# Altium integrated library NSC Interface.IntLib: 504 symbols (part 15 of 16)
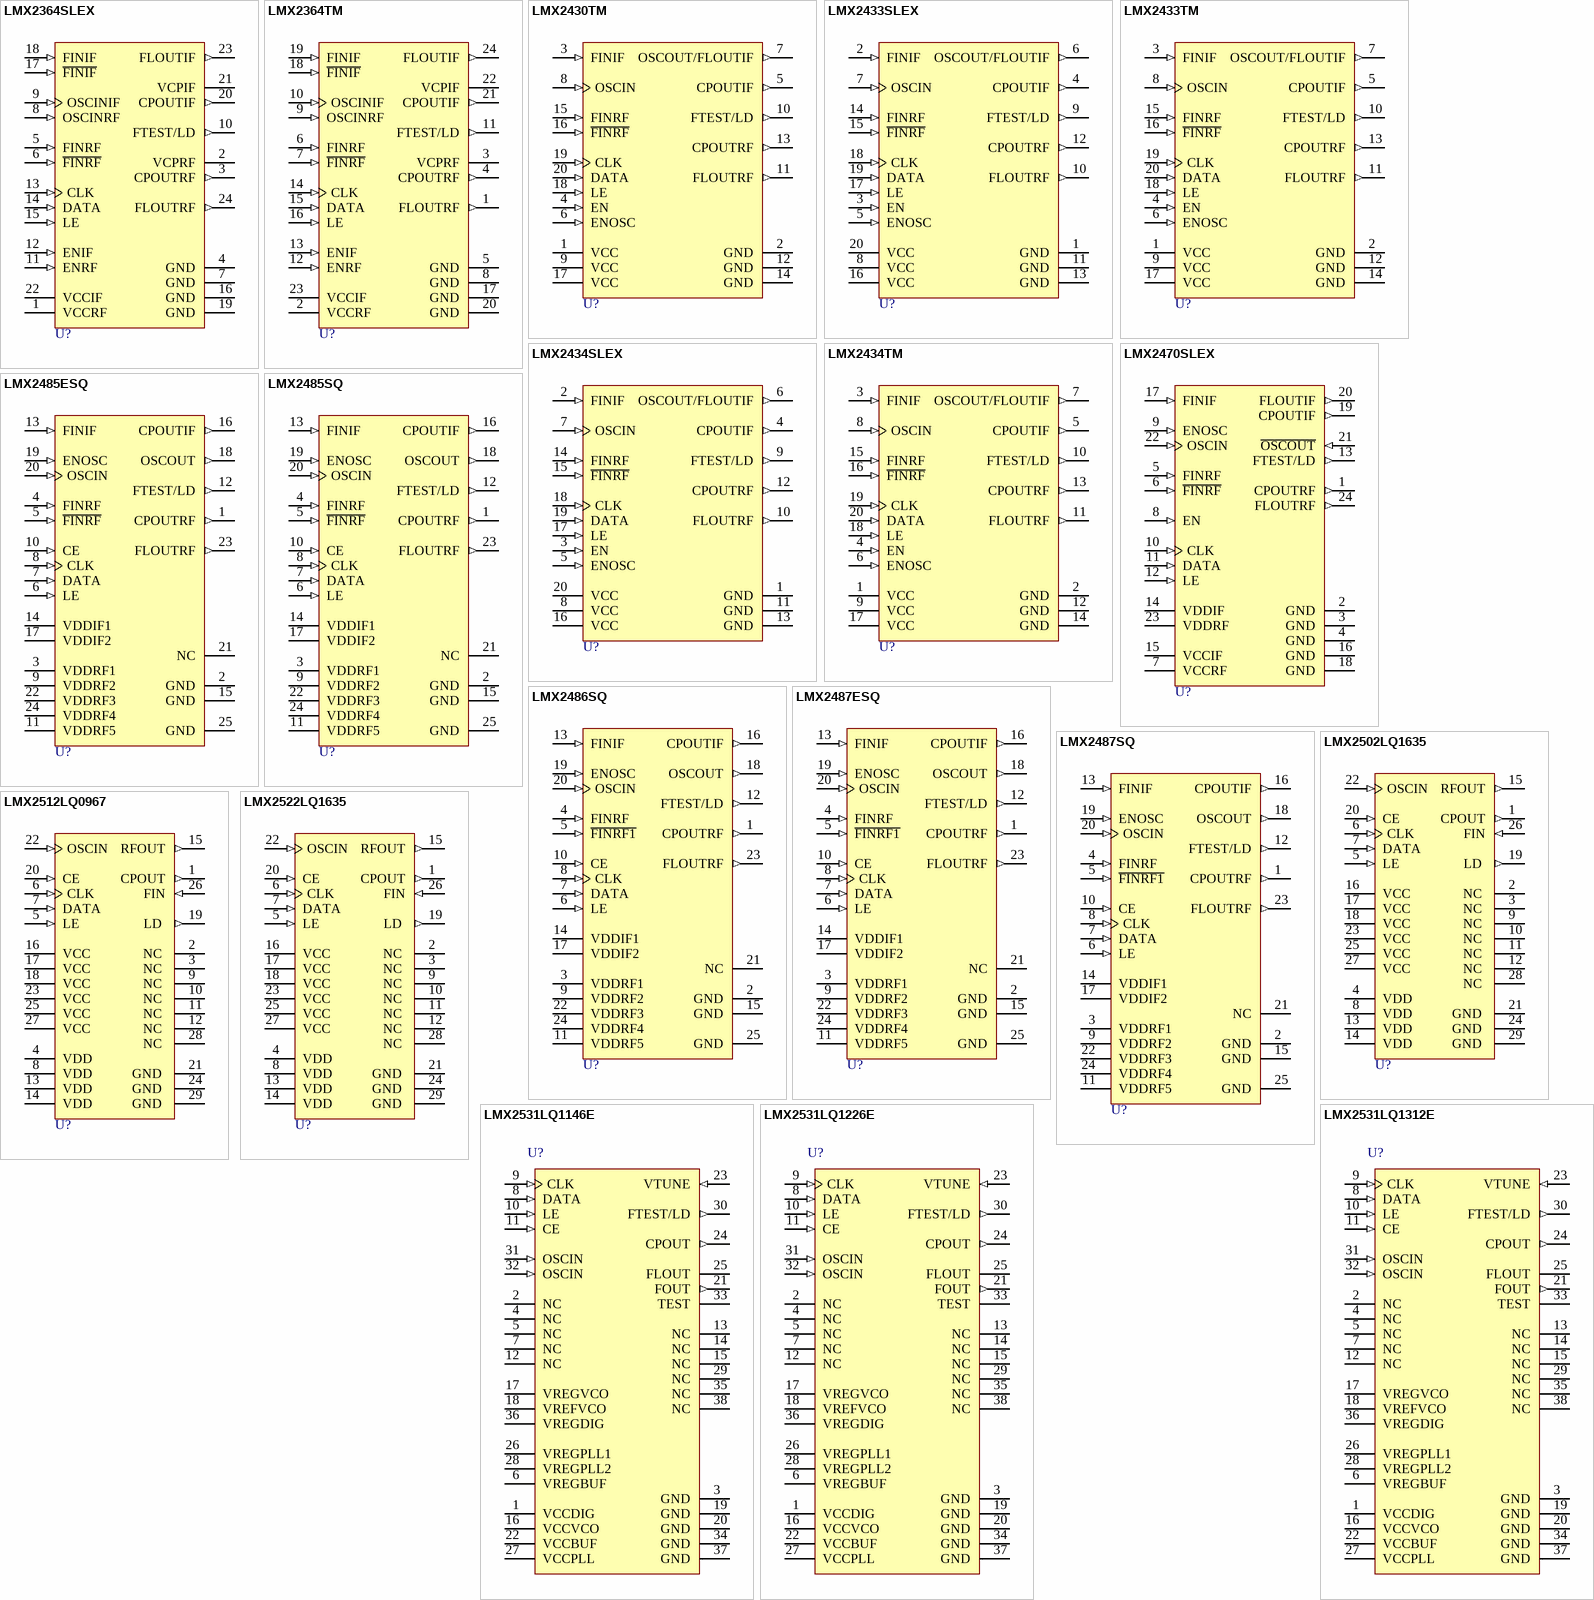
[diagram p55: symbols LMX2364SLEX to LMX2531LQ1312E]

## LMX2502LQ1635
designator U?
Frequency Synthesizer System with Integrated VCOs; PartNumber: LMX2502LQ1635; Manufacturer: National Semiconductor; CompType: Interface IC; PackageTopMarking: NS*GZXYTT*25021635; PowerWise: N; Published: 4-Dec-2008; DatasheetVersion: Jun-2003; PackageVersion: revB, Jul-2001; PackageReference: LQA28A; Publisher: Altium Limited; PackageDescription: LLP, Plastic, Quad, 5 x 5 x 0.75mm Body, 28 Lead, 0.5mm Pitch; RoHS: Y; PinCount: 28; DigiKeyPartNumber: LMX2502LQ1635TR-ND; Code_JEDEC: MO-220-WHHD-1; ComponentLink1Description: LMX2502 Datasheet; ComponentLink1URL: http://www.national.com/ds/LM/LMX2502.pdf; ComponentLink2Description: LMX2502 Web Page; ComponentLink2URL: http://www.national.com/pf/LM/LMX2502.html; ComponentLink3Description: LQA28A Package Page; ComponentLink3URL: http://www.national.com/packaging/folders/lqa28a.html
footprint LQA28A (PQFN, 28-Leads, Body 5x5mm, Pitch 0.5mm, NSC Recommended)
pins: 1 CPOUT (out), 2 NC , 3 NC , 4 VDD  (power), 5 LE  (in), 6 CLK  (in), 7 DATA  (in), 8 VDD  (power), 9 NC , 10 NC , 11 NC , 12 NC , 13 VDD  (power), 14 VDD  (power), 15 RFOUT (out), 16 VCC  (power), 17 VCC  (power), 18 VCC  (power), 19 LD  (out), 20 CE  (in), 21 GND  (power), 22 OSCIN (in), 23 VCC  (power), 24 GND  (power), 25 VCC  (power), 26 FIN (in), 27 VCC  (power), 28 NC , 29 GND  (power)

## LMX2512LQ0967
designator U?
Frequency Synthesizer System with Integrated VCO; PartNumber: LMX2512LQ0967; Manufacturer: National Semiconductor; CompType: Interface IC; PackageTopMarking: NS*GZXYTT*25120967; PowerWise: N; Published: 4-Dec-2008; DatasheetVersion: Jun-2003; PackageVersion: revB, Jul-2001; PackageReference: LQA28A; Publisher: Altium Limited; PackageDescription: LLP, Plastic, Quad, 5 x 5 x 0.75mm Body, 28 Lead, 0.5mm Pitch; RoHS: Y; PinCount: 28; DigiKeyPartNumber: LMX2512LQ0967TR-ND; Code_JEDEC: MO-220-WHHD-1; ComponentLink1Description: LMX2512 Datasheet; ComponentLink1URL: http://www.national.com/ds/LM/LMX2512.pdf; ComponentLink2Description: LMX2512 Web Page; ComponentLink2URL: http://www.national.com/pf/LM/LMX2512.html; ComponentLink3Description: LQA28A Package Page; ComponentLink3URL: http://www.national.com/packaging/folders/lqa28a.html
footprint LQA28A (PQFN, 28-Leads, Body 5x5mm, Pitch 0.5mm, NSC Recommended)
pins: 1 CPOUT (out), 2 NC , 3 NC , 4 VDD  (power), 5 LE  (in), 6 CLK  (in), 7 DATA  (in), 8 VDD  (power), 9 NC , 10 NC , 11 NC , 12 NC , 13 VDD  (power), 14 VDD  (power), 15 RFOUT (out), 16 VCC  (power), 17 VCC  (power), 18 VCC  (power), 19 LD  (out), 20 CE  (in), 21 GND  (power), 22 OSCIN (in), 23 VCC  (power), 24 GND  (power), 25 VCC  (power), 26 FIN (in), 27 VCC  (power), 28 NC , 29 GND  (power)

## LMX2522LQ1635
designator U?
PLLatinum Dual Frequency Synthesizer System with Integrated VCOs; PartNumber: LMX2522LQ1635; Manufacturer: National Semiconductor; CompType: Interface IC; PackageTopMarking: NS*GZXYTT*25221635; PowerWise: N; Published: 4-Dec-2008; DatasheetVersion: Jun-2003; PackageVersion: revB, Jul-2001; PackageReference: LQA28A; Publisher: Altium Limited; PackageDescription: LLP, Plastic, Quad, 5 x 5 x 0.75mm Body, 28 Lead, 0.5mm Pitch; RoHS: O; PinCount: 28; DigiKeyPartNumber: LMX2522LQ1635TR-ND; Code_JEDEC: MO-220-WHHD-1; ComponentLink1Description: LMX2522 Datasheet; ComponentLink1URL: http://www.national.com/ds/LM/LMX2522.pdf; ComponentLink2Description: LMX2522 Web Page; ComponentLink2URL: http://www.national.com/pf/LM/LMX2522.html; ComponentLink3Description: LQA28A Package Page; ComponentLink3URL: http://www.national.com/packaging/folders/lqa28a.html
footprint LQA28A (PQFN, 28-Leads, Body 5x5mm, Pitch 0.5mm, NSC Recommended)
pins: 1 CPOUT (out), 2 NC , 3 NC , 4 VDD  (power), 5 LE  (in), 6 CLK  (in), 7 DATA  (in), 8 VDD  (power), 9 NC , 10 NC , 11 NC , 12 NC , 13 VDD  (power), 14 VDD  (power), 15 RFOUT (out), 16 VCC  (power), 17 VCC  (power), 18 VCC  (power), 19 LD  (out), 20 CE  (in), 21 GND  (power), 22 OSCIN (in), 23 VCC  (power), 24 GND  (power), 25 VCC  (power), 26 FIN (in), 27 VCC  (power), 28 NC , 29 GND  (power)

## LMX2531LQ1146E
designator U?
High Performance Frequency Synthesizer System with Integrated VCO; PartNumber: LMX2531LQ1146E; Manufacturer: National Semiconductor; CompType: Interface IC; PackageTopMarking: NS*UZXYTT*311146E; PowerWise: Y; Published: 4-Dec-2008; DatasheetVersion: Apr-2008; PackageVersion: revB, Feb-2008; PackageReference: LQA36D; Publisher: Altium Limited; RoHS: Y; PinCount: 36; DigiKeyPartNumber: LMX2531LQ1146E-ND; ComponentLink1Description: LMX2531LQ1146E Datasheet; ComponentLink1URL: http://www.national.com/ds/LM/LMX2531LQ1146E.pdf; ComponentLink2Description: LMX2531LQ1146E Web Page; ComponentLink2URL: http://www.national.com/pf/LM/LMX2531LQ1146E.html; ComponentLink3Description: LQA36A Package Page; ComponentLink3URL: http://www.national.com/packaging/folders/lqa36a.html
footprint LQA36D (PQFN, 36-Leads, Body 6x6mm, Pitch 0.5mm, NSC Recommended)
pins: 1 VCCDIG (power), 2 NC, 3 GND (power), 4 NC, 5 NC, 6 VREGBUF (power), 7 NC, 8 DATA (in), 9 CLK (in), 10 LE (in), 11 CE (in), 12 NC, 13 NC, 14 NC, 15 NC, 16 VCCVCO (power), 17 VREGVCO (power), 18 VREFVCO (power), 19 GND (power), 20 GND (power), 21 FOUT (out), 22 VCCBUF (power), 23 VTUNE (in), 24 CPOUT (out), 25 FLOUT (oc), 26 VREGPLL1 (power), 27 VCCPLL (power), 28 VREGPLL2 (power), 29 NC, 30 FTEST/LD (out), 31 OSCIN (in), 32 OSCIN (in), 33 TEST, 34 GND (power), 35 NC, 36 VREGDIG (power), 37 GND, 38 NC

## LMX2531LQ1226E
designator U?
High Performance Frequency Synthesizer System with Integrated VCO; PartNumber: LMX2531LQ1226E; Manufacturer: National Semiconductor; CompType: Interface IC; PackageTopMarking: NS*UZXYTT*311226E; PowerWise: Y; Published: 4-Dec-2008; DatasheetVersion: Apr-2008; PackageVersion: revB, Feb-2008; PackageReference: LQA36D; Publisher: Altium Limited; RoHS: Y; PinCount: 36; DigiKeyPartNumber: LMX2531LQ1226E-ND; ComponentLink1Description: LMX2531LQ1226E Datasheet; ComponentLink1URL: http://www.national.com/ds/LM/LMX2531LQ1226E.pdf; ComponentLink2Description: LMX2531LQ1226E Web Page; ComponentLink2URL: http://www.national.com/pf/LM/LMX2531LQ1226E.html; ComponentLink3Description: LQA36A Package Page; ComponentLink3URL: http://www.national.com/packaging/folders/lqa36a.html
footprint LQA36D (PQFN, 36-Leads, Body 6x6mm, Pitch 0.5mm, NSC Recommended)
pins: 1 VCCDIG (power), 2 NC, 3 GND (power), 4 NC, 5 NC, 6 VREGBUF (power), 7 NC, 8 DATA (in), 9 CLK (in), 10 LE (in), 11 CE (in), 12 NC, 13 NC, 14 NC, 15 NC, 16 VCCVCO (power), 17 VREGVCO (power), 18 VREFVCO (power), 19 GND (power), 20 GND (power), 21 FOUT (out), 22 VCCBUF (power), 23 VTUNE (in), 24 CPOUT (out), 25 FLOUT (oc), 26 VREGPLL1 (power), 27 VCCPLL (power), 28 VREGPLL2 (power), 29 NC, 30 FTEST/LD (out), 31 OSCIN (in), 32 OSCIN (in), 33 TEST, 34 GND (power), 35 NC, 36 VREGDIG (power), 37 GND, 38 NC

## LMX2531LQ1312E
designator U?
High Performance Frequency Synthesizer System with Integrated VCO; PartNumber: LMX2531LQ1312E; Manufacturer: National Semiconductor; CompType: Interface IC; PackageTopMarking: NS*UZXYTT*311312E; PowerWise: Y; Published: 4-Dec-2008; DatasheetVersion: Apr-2008; PackageVersion: revB, Feb-2008; PackageReference: LQA36D; Publisher: Altium Limited; RoHS: Y; PinCount: 36; DigiKeyPartNumber: LMX2531LQ1312E-ND; ComponentLink1Description: LMX2531LQ1312E Datasheet; ComponentLink1URL: http://www.national.com/ds/LM/LMX2531LQ1312E.pdf; ComponentLink2Description: LMX2531LQ1312E Web Page; ComponentLink2URL: http://www.national.com/pf/LM/LMX2531LQ1312E.html; ComponentLink3Description: LQA36A Package Page; ComponentLink3URL: http://www.national.com/packaging/folders/lqa36a.html
footprint LQA36D (PQFN, 36-Leads, Body 6x6mm, Pitch 0.5mm, NSC Recommended)
pins: 1 VCCDIG (power), 2 NC, 3 GND (power), 4 NC, 5 NC, 6 VREGBUF (power), 7 NC, 8 DATA (in), 9 CLK (in), 10 LE (in), 11 CE (in), 12 NC, 13 NC, 14 NC, 15 NC, 16 VCCVCO (power), 17 VREGVCO (power), 18 VREFVCO (power), 19 GND (power), 20 GND (power), 21 FOUT (out), 22 VCCBUF (power), 23 VTUNE (in), 24 CPOUT (out), 25 FLOUT (oc), 26 VREGPLL1 (power), 27 VCCPLL (power), 28 VREGPLL2 (power), 29 NC, 30 FTEST/LD (out), 31 OSCIN (in), 32 OSCIN (in), 33 TEST, 34 GND (power), 35 NC, 36 VREGDIG (power), 37 GND, 38 NC

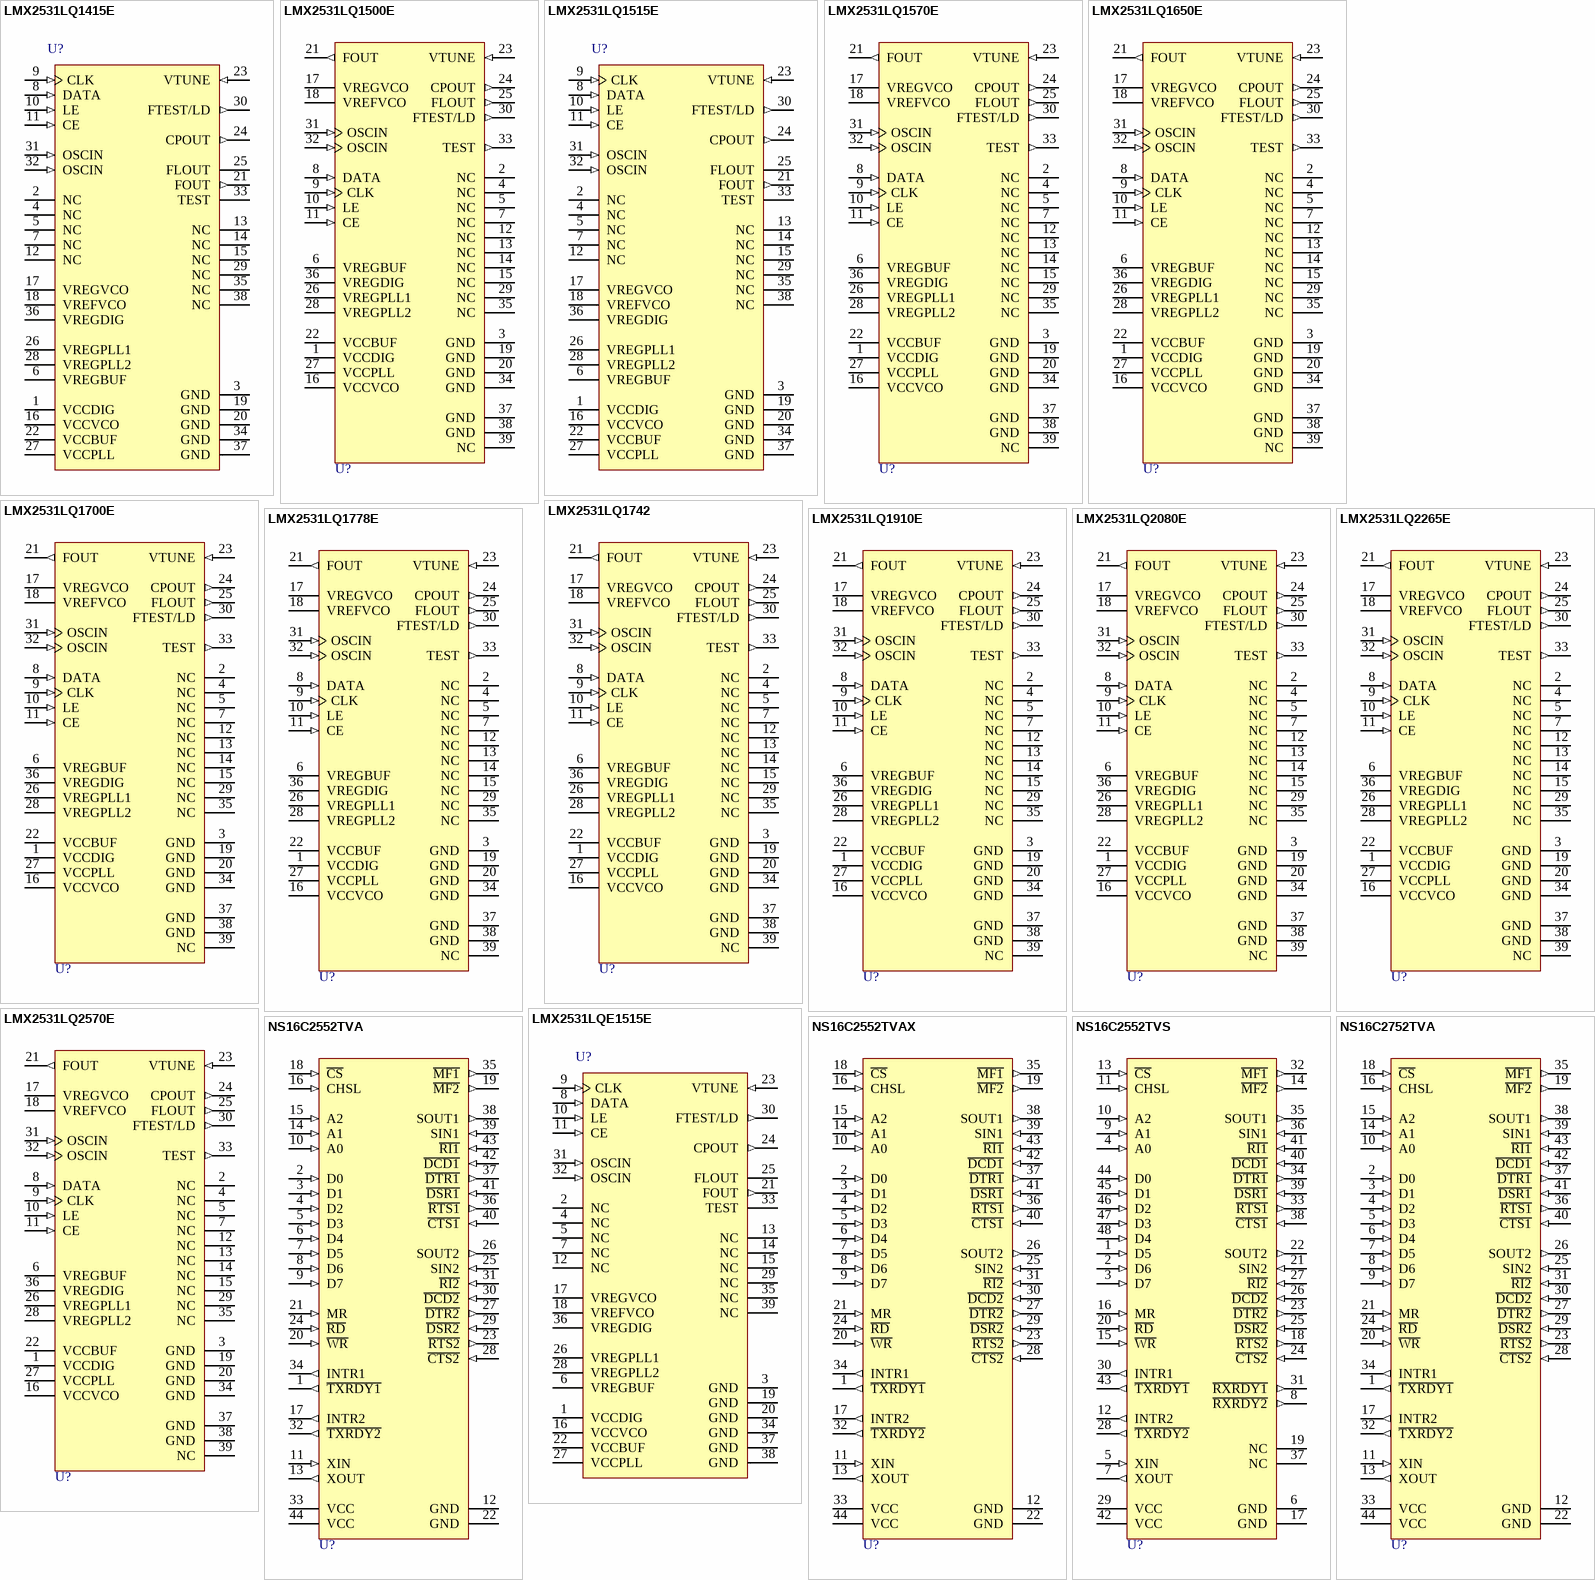
[diagram p36: symbols LMX2531LQ1415E to NS16C2752TVA]

## LMX2531LQ1415E
designator U?
High Performance Frequency Synthesizer System with Integrated VCO; PartNumber: LMX2531LQ1415E; Manufacturer: National Semiconductor; CompType: Interface IC; PackageTopMarking: NS*UZXYTT*311415E; PowerWise: Y; Published: 4-Dec-2008; DatasheetVersion: Apr-2008; PackageVersion: revB, Feb-2008; PackageReference: LQA36D; Publisher: Altium Limited; RoHS: Y; PinCount: 36; DigiKeyPartNumber: LMX2531LQ1415E-ND; ComponentLink1Description: LMX2531LQ1415E Datasheet; ComponentLink1URL: http://www.national.com/ds/LM/LMX2531LQ1415E.pdf; ComponentLink2Description: LMX2531LQ1415E Web Page; ComponentLink2URL: http://www.national.com/pf/LM/LMX2531LQ1415E.html; ComponentLink3Description: LQA36A Package Page; ComponentLink3URL: http://www.national.com/packaging/folders/lqa36a.html
footprint LQA36D (PQFN, 36-Leads, Body 6x6mm, Pitch 0.5mm, NSC Recommended)
pins: 1 VCCDIG (power), 2 NC, 3 GND (power), 4 NC, 5 NC, 6 VREGBUF (power), 7 NC, 8 DATA (in), 9 CLK (in), 10 LE (in), 11 CE (in), 12 NC, 13 NC, 14 NC, 15 NC, 16 VCCVCO (power), 17 VREGVCO (power), 18 VREFVCO (power), 19 GND (power), 20 GND (power), 21 FOUT (out), 22 VCCBUF (power), 23 VTUNE (in), 24 CPOUT (out), 25 FLOUT (oc), 26 VREGPLL1 (power), 27 VCCPLL (power), 28 VREGPLL2 (power), 29 NC, 30 FTEST/LD (out), 31 OSCIN (in), 32 OSCIN (in), 33 TEST, 34 GND (power), 35 NC, 36 VREGDIG (power), 37 GND, 38 NC

## LMX2531LQ1500E
designator U?
High Performance Frequency Synthesizer System with Integrated VCO; PartNumber: LMX2531LQ1500E; Manufacturer: National Semiconductor; CompType: Interface IC; PackageTopMarking: NS*UZXYTT*311500EB; PowerWise: Y; Published: 4-Dec-2008; DatasheetVersion: May-2007; PackageVersion: revC, Oct-2003; PackageReference: LQA36A; Publisher: Altium Limited; PackageDescription: LLP, Plastic, Quad, 6 x 6 x 0.8mm Body, 36 Lead, 0.5mm Pitch, Custom; RoHS: Y; PinCount: 36; DigiKeyPartNumber: LMX2531LQ1500ETR-ND; ComponentLink1Description: LMX2531LQ1500E Datasheet; ComponentLink1URL: http://www.national.com/ds/LM/LMX2531LQ1500E.pdf; ComponentLink2Description: LMX2531LQ1500E Web Page; ComponentLink2URL: http://www.national.com/pf/LM/LMX2531LQ1500E.html; ComponentLink3Description: LQA36A Package Page; ComponentLink3URL: http://www.national.com/packaging/folders/lqa36a.html
footprint LQA36A (PQFN, 36-Leads, Body 6x6mm, Pitch 0.5mm, NSC Recommended)
pins: 1 VCCDIG (power), 2 NC, 3 GND (power), 4 NC, 5 NC, 6 VREGBUF (power), 7 NC, 8 DATA (in), 9 CLK (in), 10 LE (in), 11 CE (in), 12 NC, 13 NC, 14 NC, 15 NC, 16 VCCVCO (power), 17 VREGVCO (power), 18 VREFVCO (power), 19 GND (power), 20 GND (power), 21 FOUT (out), 22 VCCBUF (power), 23 VTUNE (in), 24 CPOUT (out), 25 FLOUT (out), 26 VREGPLL1 (power), 27 VCCPLL (power), 28 VREGPLL2 (power), 29 NC, 30 FTEST/LD (out), 31 OSCIN (in), 32 OSCIN (in), 33 TEST (out), 34 GND (power), 35 NC, 36 VREGDIG (power), 37 GND (power), 38 GND (power), 39 NC

## LMX2531LQ1515E
designator U?
High Performance Frequency Synthesizer System with Integrated VCO; PartNumber: LMX2531LQ1515E; Manufacturer: National Semiconductor; CompType: Interface IC; PackageTopMarking: NS*UZXYTT*311515E; PowerWise: Y; Published: 4-Dec-2008; DatasheetVersion: Apr-2008; PackageVersion: revB, Feb-2008; PackageReference: LQA36D; Publisher: Altium Limited; RoHS: Y; PinCount: 36; DigiKeyPartNumber: LMX2531LQ1515E-ND; ComponentLink1Description: LMX2531LQ1515E Datasheet; ComponentLink1URL: http://www.national.com/ds/LM/LMX2531LQ1515E.pdf; ComponentLink2Description: LMX2531LQ1515E Web Page; ComponentLink2URL: http://www.national.com/pf/LM/LMX2531LQ1515E.html; ComponentLink3Description: LQA36A Package Page; ComponentLink3URL: http://www.national.com/packaging/folders/lqa36a.html
footprint LQA36D (PQFN, 36-Leads, Body 6x6mm, Pitch 0.5mm, NSC Recommended)
pins: 1 VCCDIG (power), 2 NC, 3 GND (power), 4 NC, 5 NC, 6 VREGBUF (power), 7 NC, 8 DATA (in), 9 CLK (in), 10 LE (in), 11 CE (in), 12 NC, 13 NC, 14 NC, 15 NC, 16 VCCVCO (power), 17 VREGVCO (power), 18 VREFVCO (power), 19 GND (power), 20 GND (power), 21 FOUT (out), 22 VCCBUF (power), 23 VTUNE (in), 24 CPOUT (out), 25 FLOUT (oc), 26 VREGPLL1 (power), 27 VCCPLL (power), 28 VREGPLL2 (power), 29 NC, 30 FTEST/LD (out), 31 OSCIN (in), 32 OSCIN (in), 33 TEST, 34 GND (power), 35 NC, 36 VREGDIG (power), 37 GND, 38 NC

## LMX2531LQ1570E
designator U?
High Performance Frequency Synthesizer System with Integrated VCO; PartNumber: LMX2531LQ1570E; Manufacturer: National Semiconductor; CompType: Interface IC; PackageTopMarking: NS*UZXYTT*311570EB; PowerWise: Y; Published: 4-Dec-2008; DatasheetVersion: Apr-2008; PackageVersion: revC, Oct-2003; PackageReference: LQA36A; Publisher: Altium Limited; PackageDescription: LLP, Plastic, Quad, 6 x 6 x 0.8mm Body, 36 Lead, 0.5mm Pitch, Custom; RoHS: Y; PinCount: 36; DigiKeyPartNumber: LMX2531LQ1570ETR-ND; ComponentLink1Description: LMX2531LQ1570E Datasheet; ComponentLink1URL: http://www.national.com/ds/LM/LMX2531LQ1570E.pdf; ComponentLink2Description: LMX2531LQ1570E Web Page; ComponentLink2URL: http://www.national.com/pf/LM/LMX2531LQ1570E.html; ComponentLink3Description: LQA36A Package Page; ComponentLink3URL: http://www.national.com/packaging/folders/lqa36a.html
footprint LQA36A (PQFN, 36-Leads, Body 6x6mm, Pitch 0.5mm, NSC Recommended)
pins: 1 VCCDIG (power), 2 NC, 3 GND (power), 4 NC, 5 NC, 6 VREGBUF (power), 7 NC, 8 DATA (in), 9 CLK (in), 10 LE (in), 11 CE (in), 12 NC, 13 NC, 14 NC, 15 NC, 16 VCCVCO (power), 17 VREGVCO (power), 18 VREFVCO (power), 19 GND (power), 20 GND (power), 21 FOUT (out), 22 VCCBUF (power), 23 VTUNE (in), 24 CPOUT (out), 25 FLOUT (out), 26 VREGPLL1 (power), 27 VCCPLL (power), 28 VREGPLL2 (power), 29 NC, 30 FTEST/LD (out), 31 OSCIN (in), 32 OSCIN (in), 33 TEST (out), 34 GND (power), 35 NC, 36 VREGDIG (power), 37 GND (power), 38 GND (power), 39 NC

## LMX2531LQ1650E
designator U?
High Performance Frequency Synthesizer System with Integrated VCO; PartNumber: LMX2531LQ1650E; Manufacturer: National Semiconductor; CompType: Interface IC; PackageTopMarking: NS*UZXYTT*311650EA; PowerWise: Y; Published: 4-Dec-2008; DatasheetVersion: Apr-2008; PackageVersion: revC, Oct-2003; PackageReference: LQA36A; Publisher: Altium Limited; PackageDescription: LLP, Plastic, Quad, 6 x 6 x 0.8mm Body, 36 Lead, 0.5mm Pitch, Custom; RoHS: Y; PinCount: 36; DigiKeyPartNumber: LMX2531LQ1650ETR-ND; ComponentLink1Description: LMX2531LQ1650E Datasheet; ComponentLink1URL: http://www.national.com/ds/LM/LMX2531LQ1650E.pdf; ComponentLink2Description: LMX2531LQ1650E Web Page; ComponentLink2URL: http://www.national.com/pf/LM/LMX2531LQ1650E.html; ComponentLink3Description: LQA36A Package Page; ComponentLink3URL: http://www.national.com/packaging/folders/lqa36a.html
footprint LQA36A (PQFN, 36-Leads, Body 6x6mm, Pitch 0.5mm, NSC Recommended)
pins: 1 VCCDIG (power), 2 NC, 3 GND (power), 4 NC, 5 NC, 6 VREGBUF (power), 7 NC, 8 DATA (in), 9 CLK (in), 10 LE (in), 11 CE (in), 12 NC, 13 NC, 14 NC, 15 NC, 16 VCCVCO (power), 17 VREGVCO (power), 18 VREFVCO (power), 19 GND (power), 20 GND (power), 21 FOUT (out), 22 VCCBUF (power), 23 VTUNE (in), 24 CPOUT (out), 25 FLOUT (out), 26 VREGPLL1 (power), 27 VCCPLL (power), 28 VREGPLL2 (power), 29 NC, 30 FTEST/LD (out), 31 OSCIN (in), 32 OSCIN (in), 33 TEST (out), 34 GND (power), 35 NC, 36 VREGDIG (power), 37 GND (power), 38 GND (power), 39 NC

## LMX2531LQ1700E
designator U?
High Performance Frequency Synthesizer System with Integrated VCO; PartNumber: LMX2531LQ1700E; Manufacturer: National Semiconductor; CompType: Interface IC; PackageTopMarking: NS*UZXYTT*311700EB; PowerWise: Y; Published: 4-Dec-2008; DatasheetVersion: Apr-2008; PackageVersion: revC, Oct-2003; PackageReference: LQA36A; Publisher: Altium Limited; PackageDescription: LLP, Plastic, Quad, 6 x 6 x 0.8mm Body, 36 Lead, 0.5mm Pitch, Custom; RoHS: Y; PinCount: 36; DigiKeyPartNumber: LMX2531LQ1700ETR-ND; ComponentLink1Description: LMX2531LQ1700E Datasheet; ComponentLink1URL: http://www.national.com/ds/LM/LMX2531LQ1700E.pdf; ComponentLink2Description: LMX2531LQ1700E Web Page; ComponentLink2URL: http://www.national.com/pf/LM/LMX2531LQ1700E.html; ComponentLink3Description: LQA36A Package Page; ComponentLink3URL: http://www.national.com/packaging/folders/lqa36a.html
footprint LQA36A (PQFN, 36-Leads, Body 6x6mm, Pitch 0.5mm, NSC Recommended)
pins: 1 VCCDIG (power), 2 NC, 3 GND (power), 4 NC, 5 NC, 6 VREGBUF (power), 7 NC, 8 DATA (in), 9 CLK (in), 10 LE (in), 11 CE (in), 12 NC, 13 NC, 14 NC, 15 NC, 16 VCCVCO (power), 17 VREGVCO (power), 18 VREFVCO (power), 19 GND (power), 20 GND (power), 21 FOUT (out), 22 VCCBUF (power), 23 VTUNE (in), 24 CPOUT (out), 25 FLOUT (out), 26 VREGPLL1 (power), 27 VCCPLL (power), 28 VREGPLL2 (power), 29 NC, 30 FTEST/LD (out), 31 OSCIN (in), 32 OSCIN (in), 33 TEST (out), 34 GND (power), 35 NC, 36 VREGDIG (power), 37 GND (power), 38 GND (power), 39 NC

## LMX2531LQ1742
designator U?
High Performance Frequency Synthesizer System with Integrated VCO; PartNumber: LMX2531LQ1742; Manufacturer: National Semiconductor; CompType: Interface IC; PackageTopMarking: NS*UZXYTT*311742A; PowerWise: Y; Published: 4-Dec-2008; DatasheetVersion: Apr-2008; PackageVersion: revC, Oct-2003; PackageReference: LQA36A; Publisher: Altium Limited; PackageDescription: LLP, Plastic, Quad, 6 x 6 x 0.8mm Body, 36 Lead, 0.5mm Pitch, Custom; RoHS: Y; PinCount: 36; DigiKeyPartNumber: LMX2531LQ1742TR-ND; ComponentLink1Description: LMX2531LQ1742 Datasheet; ComponentLink1URL: http://www.national.com/ds/LM/LMX2531LQ1742.pdf; ComponentLink2Description: LMX2531LQ1742 Web Page; ComponentLink2URL: http://www.national.com/pf/LM/LMX2531LQ1742.html; ComponentLink3Description: LQA36A Package Page; ComponentLink3URL: http://www.national.com/packaging/folders/lqa36a.html
footprint LQA36A (PQFN, 36-Leads, Body 6x6mm, Pitch 0.5mm, NSC Recommended)
pins: 1 VCCDIG (power), 2 NC, 3 GND (power), 4 NC, 5 NC, 6 VREGBUF (power), 7 NC, 8 DATA (in), 9 CLK (in), 10 LE (in), 11 CE (in), 12 NC, 13 NC, 14 NC, 15 NC, 16 VCCVCO (power), 17 VREGVCO (power), 18 VREFVCO (power), 19 GND (power), 20 GND (power), 21 FOUT (out), 22 VCCBUF (power), 23 VTUNE (in), 24 CPOUT (out), 25 FLOUT (out), 26 VREGPLL1 (power), 27 VCCPLL (power), 28 VREGPLL2 (power), 29 NC, 30 FTEST/LD (out), 31 OSCIN (in), 32 OSCIN (in), 33 TEST (out), 34 GND (power), 35 NC, 36 VREGDIG (power), 37 GND (power), 38 GND (power), 39 NC

## LMX2531LQ1778E
designator U?
High Performance Frequency Synthesizer System with Integrated VCO; PartNumber: LMX2531LQ1778E; Manufacturer: National Semiconductor; CompType: Interface IC; PackageTopMarking: NS*UZXYTT*311778EA; PowerWise: Y; Published: 4-Dec-2008; DatasheetVersion: Apr-2008; PackageVersion: revC, Oct-2003; PackageReference: LQA36A; Publisher: Altium Limited; PackageDescription: LLP, Plastic, Quad, 6 x 6 x 0.8mm Body, 36 Lead, 0.5mm Pitch, Custom; RoHS: Y; PinCount: 36; DigiKeyPartNumber: LMX2531LQ1778ETR-ND; ComponentLink1Description: LMX2531LQ1778E Datasheet; ComponentLink1URL: http://www.national.com/ds/LM/LMX2531LQ1778E.pdf; ComponentLink2Description: LMX2531LQ1778E Web Page; ComponentLink2URL: http://www.national.com/pf/LM/LMX2531LQ1778E.html; ComponentLink3Description: LQA36A Package Page; ComponentLink3URL: http://www.national.com/packaging/folders/lqa36a.html
footprint LQA36A (PQFN, 36-Leads, Body 6x6mm, Pitch 0.5mm, NSC Recommended)
pins: 1 VCCDIG (power), 2 NC, 3 GND (power), 4 NC, 5 NC, 6 VREGBUF (power), 7 NC, 8 DATA (in), 9 CLK (in), 10 LE (in), 11 CE (in), 12 NC, 13 NC, 14 NC, 15 NC, 16 VCCVCO (power), 17 VREGVCO (power), 18 VREFVCO (power), 19 GND (power), 20 GND (power), 21 FOUT (out), 22 VCCBUF (power), 23 VTUNE (in), 24 CPOUT (out), 25 FLOUT (out), 26 VREGPLL1 (power), 27 VCCPLL (power), 28 VREGPLL2 (power), 29 NC, 30 FTEST/LD (out), 31 OSCIN (in), 32 OSCIN (in), 33 TEST (out), 34 GND (power), 35 NC, 36 VREGDIG (power), 37 GND (power), 38 GND (power), 39 NC

## LMX2531LQ1910E
designator U?
High Performance Frequency Synthesizer System with Integrated VCO; PartNumber: LMX2531LQ1910E; Manufacturer: National Semiconductor; CompType: Interface IC; PackageTopMarking: NS*UZXYTT*311910EB; PowerWise: Y; Published: 4-Dec-2008; DatasheetVersion: Apr-2008; PackageVersion: revC, Oct-2003; PackageReference: LQA36A; Publisher: Altium Limited; PackageDescription: LLP, Plastic, Quad, 6 x 6 x 0.8mm Body, 36 Lead, 0.5mm Pitch, Custom; RoHS: Y; PinCount: 36; DigiKeyPartNumber: LMX2531LQ1910ETR-ND; ComponentLink1Description: LMX2531LQ1910E Datasheet; ComponentLink1URL: http://www.national.com/ds/LM/LMX2531LQ1910E.pdf; ComponentLink2Description: LMX2531LQ1910E Web Page; ComponentLink2URL: http://www.national.com/pf/LM/LMX2531LQ1910E.html; ComponentLink3Description: LQA36A Package Page; ComponentLink3URL: http://www.national.com/packaging/folders/lqa36a.html
footprint LQA36A (PQFN, 36-Leads, Body 6x6mm, Pitch 0.5mm, NSC Recommended)
pins: 1 VCCDIG (power), 2 NC, 3 GND (power), 4 NC, 5 NC, 6 VREGBUF (power), 7 NC, 8 DATA (in), 9 CLK (in), 10 LE (in), 11 CE (in), 12 NC, 13 NC, 14 NC, 15 NC, 16 VCCVCO (power), 17 VREGVCO (power), 18 VREFVCO (power), 19 GND (power), 20 GND (power), 21 FOUT (out), 22 VCCBUF (power), 23 VTUNE (in), 24 CPOUT (out), 25 FLOUT (out), 26 VREGPLL1 (power), 27 VCCPLL (power), 28 VREGPLL2 (power), 29 NC, 30 FTEST/LD (out), 31 OSCIN (in), 32 OSCIN (in), 33 TEST (out), 34 GND (power), 35 NC, 36 VREGDIG (power), 37 GND (power), 38 GND (power), 39 NC

## LMX2531LQ2080E
designator U?
High Performance Frequency Synthesizer System with Integrated VCO; PartNumber: LMX2531LQ2080E; Manufacturer: National Semiconductor; CompType: Interface IC; PackageTopMarking: NS*UZXYTT*312080EB; PowerWise: Y; Published: 4-Dec-2008; DatasheetVersion: Apr-2008; PackageVersion: revC, Oct-2003; PackageReference: LQA36A; Publisher: Altium Limited; PackageDescription: LLP, Plastic, Quad, 6 x 6 x 0.8mm Body, 36 Lead, 0.5mm Pitch, Custom; RoHS: Y; PinCount: 36; DigiKeyPartNumber: LMX2531LQ2080ETR-ND; ComponentLink1Description: LMX2531LQ2080E Datasheet; ComponentLink1URL: http://www.national.com/ds/LM/LMX2531LQ2080E.pdf; ComponentLink2Description: LMX2531LQ2080E Web Page; ComponentLink2URL: http://www.national.com/pf/LM/LMX2531LQ2080E.html; ComponentLink3Description: LQA36A Package Page; ComponentLink3URL: http://www.national.com/packaging/folders/lqa36a.html
footprint LQA36A (PQFN, 36-Leads, Body 6x6mm, Pitch 0.5mm, NSC Recommended)
pins: 1 VCCDIG (power), 2 NC, 3 GND (power), 4 NC, 5 NC, 6 VREGBUF (power), 7 NC, 8 DATA (in), 9 CLK (in), 10 LE (in), 11 CE (in), 12 NC, 13 NC, 14 NC, 15 NC, 16 VCCVCO (power), 17 VREGVCO (power), 18 VREFVCO (power), 19 GND (power), 20 GND (power), 21 FOUT (out), 22 VCCBUF (power), 23 VTUNE (in), 24 CPOUT (out), 25 FLOUT (out), 26 VREGPLL1 (power), 27 VCCPLL (power), 28 VREGPLL2 (power), 29 NC, 30 FTEST/LD (out), 31 OSCIN (in), 32 OSCIN (in), 33 TEST (out), 34 GND (power), 35 NC, 36 VREGDIG (power), 37 GND (power), 38 GND (power), 39 NC

## LMX2531LQ2265E
designator U?
High Performance Frequency Synthesizer System with Integrated VCO; PartNumber: LMX2531LQ2265E; Manufacturer: National Semiconductor; CompType: Interface IC; PackageTopMarking: NS*UZXYTT*312265ED; PowerWise: Y; Published: 4-Dec-2008; DatasheetVersion: Apr-2008; PackageVersion: revC, Oct-2003; PackageReference: LQA36A; Publisher: Altium Limited; PackageDescription: LLP, Plastic, Quad, 6 x 6 x 0.8mm Body, 36 Lead, 0.5mm Pitch, Custom; RoHS: O; PinCount: 36; DigiKeyPartNumber: LMX2531LQ2265ETR-ND; ComponentLink1Description: LMX2531LQ2265E Datasheet; ComponentLink1URL: http://www.national.com/ds/LM/LMX2531LQ2265E.pdf; ComponentLink2Description: LMX2531LQ2265E Web Page; ComponentLink2URL: http://www.national.com/pf/LM/LMX2531LQ2265E.html; ComponentLink3Description: LQA36A Package Page; ComponentLink3URL: http://www.national.com/packaging/folders/lqa36a.html
footprint LQA36A (PQFN, 36-Leads, Body 6x6mm, Pitch 0.5mm, NSC Recommended)
pins: 1 VCCDIG (power), 2 NC, 3 GND (power), 4 NC, 5 NC, 6 VREGBUF (power), 7 NC, 8 DATA (in), 9 CLK (in), 10 LE (in), 11 CE (in), 12 NC, 13 NC, 14 NC, 15 NC, 16 VCCVCO (power), 17 VREGVCO (power), 18 VREFVCO (power), 19 GND (power), 20 GND (power), 21 FOUT (out), 22 VCCBUF (power), 23 VTUNE (in), 24 CPOUT (out), 25 FLOUT (out), 26 VREGPLL1 (power), 27 VCCPLL (power), 28 VREGPLL2 (power), 29 NC, 30 FTEST/LD (out), 31 OSCIN (in), 32 OSCIN (in), 33 TEST (out), 34 GND (power), 35 NC, 36 VREGDIG (power), 37 GND (power), 38 GND (power), 39 NC

## LMX2531LQ2570E
designator U?
High Performance Frequency Synthesizer System with Integrated VCO; PartNumber: LMX2531LQ2570E; Manufacturer: National Semiconductor; CompType: Interface IC; PackageTopMarking: NS*UZXYTT*312570EC; PowerWise: Y; Published: 4-Dec-2008; DatasheetVersion: Apr-2008; PackageVersion: revC, Oct-2003; PackageReference: LQA36A; Publisher: Altium Limited; PackageDescription: LLP, Plastic, Quad, 6 x 6 x 0.8mm Body, 36 Lead, 0.5mm Pitch, Custom; RoHS: Y; PinCount: 36; DigiKeyPartNumber: LMX2531LQ2570ETR-ND; ComponentLink1Description: LMX2531LQ2570E Datasheet; ComponentLink1URL: http://www.national.com/ds/LM/LMX2531LQ2570E.pdf; ComponentLink2Description: LMX2531LQ2570E Web Page; ComponentLink2URL: http://www.national.com/pf/LM/LMX2531LQ2570E.html; ComponentLink3Description: LQA36A Package Page; ComponentLink3URL: http://www.national.com/packaging/folders/lqa36a.html
footprint LQA36A (PQFN, 36-Leads, Body 6x6mm, Pitch 0.5mm, NSC Recommended)
pins: 1 VCCDIG (power), 2 NC, 3 GND (power), 4 NC, 5 NC, 6 VREGBUF (power), 7 NC, 8 DATA (in), 9 CLK (in), 10 LE (in), 11 CE (in), 12 NC, 13 NC, 14 NC, 15 NC, 16 VCCVCO (power), 17 VREGVCO (power), 18 VREFVCO (power), 19 GND (power), 20 GND (power), 21 FOUT (out), 22 VCCBUF (power), 23 VTUNE (in), 24 CPOUT (out), 25 FLOUT (out), 26 VREGPLL1 (power), 27 VCCPLL (power), 28 VREGPLL2 (power), 29 NC, 30 FTEST/LD (out), 31 OSCIN (in), 32 OSCIN (in), 33 TEST (out), 34 GND (power), 35 NC, 36 VREGDIG (power), 37 GND (power), 38 GND (power), 39 NC

## LMX2531LQE1515E
designator U?
High Performance Frequency Synthesizer System with Integrated VCO; PartNumber: LMX2531LQE1515E; Manufacturer: National Semiconductor; CompType: Interface IC; PackageTopMarking: NS*UZXYTT* 311515E; PowerWise: Y; Published: 4-Dec-2008; DatasheetVersion: Apr-2008; PackageVersion: revC, Oct-2003; PackageReference: LQA36A; Publisher: Altium Limited; RoHS: Y; PinCount: 36; DigiKeyPartNumber: LMX2531LQE1515ECT-ND; ComponentLink1Description: LMX2531LQ1515E Datasheet; ComponentLink1URL: http://www.national.com/ds/LM/LMX2531LQ1515E.pdf; ComponentLink2Description: LMX2531LQ1515E Web Page; ComponentLink2URL: http://www.national.com/pf/LM/LMX2531LQ1515E.html; ComponentLink3Description: LQA36A Package Page; ComponentLink3URL: http://www.national.com/packaging/folders/lqa36a.html
footprint LQA36A (PQFN, 36-Leads, Body 6x6mm, Pitch 0.5mm, NSC Recommended)
pins: 1 VCCDIG (power), 2 NC, 3 GND (power), 4 NC, 5 NC, 6 VREGBUF (power), 7 NC, 8 DATA (in), 9 CLK (in), 10 LE (in), 11 CE (in), 12 NC, 13 NC, 14 NC, 15 NC, 16 VCCVCO (power), 17 VREGVCO (power), 18 VREFVCO (power), 19 GND (power), 20 GND (power), 21 FOUT (out), 22 VCCBUF (power), 23 VTUNE (in), 24 CPOUT (out), 25 FLOUT (oc), 26 VREGPLL1 (power), 27 VCCPLL (power), 28 VREGPLL2 (power), 29 NC, 30 FTEST/LD (out), 31 OSCIN (in), 32 OSCIN (in), 33 TEST, 34 GND (power), 35 NC, 36 VREGDIG (power), 37 GND, 38 GND, 39 NC

## NS16C2552TVA
designator U?
Dual UART with 16-byte/64-byte FIFO's and up to 5 Mbit/s Data Rate; PartNumber: NS16C2552TVA; Manufacturer: National Semiconductor; CompType: Interface IC; PackageTopMarking: NSUZXYYTTE#*NS16C2552TVA; PowerWise: N; Published: 4-Dec-2008; DatasheetVersion: Dec-2006; PackageVersion: revK, Dec-1993; PackageReference: V44A; Publisher: Altium Limited; PackageDescription: Plastic Chip Carrier, Sq., .050mil Lead Pitch, 44 Lead; RoHS: Y; PinCount: 44; Code_IPC: PLCC-44; ComponentLink1Description: NS16C2552 Datasheet; ComponentLink1URL: http://www.national.com/ds/NS/NS16C2552.pdf; ComponentLink2Description: NS16C2552 Web Page; ComponentLink2URL: http://www.national.com/pf/NS/NS16C2552.html; ComponentLink3Description: V44A Package Page; ComponentLink3URL: http://www.national.com/packaging/folders/v44a.html
footprint V44A_N (Leaded Chip Carrier, 44-Leads, Body 16.6x16.6mm, Pitch 1.27mm, IPC Medium Density)
footprint V44A_L (Leaded Chip Carrier, 44-Leads, Body 16.6x16.6mm, Pitch 1.27mm, IPC High Density)
footprint V44A_M (Leaded Chip Carrier, 44-Leads, Body 16.6x16.6mm, Pitch 1.27mm, IPC Low Density)
pins: 1 ~{TXRDY1} (out), 2 D0 (in), 3 D1 (in), 4 D2 (in), 5 D3 (in), 6 D4 (in), 7 D5 (in), 8 D6 (in), 9 D7 (in), 10 A0 (in), 11 XIN (in), 12 GND (power), 13 XOUT (out), 14 A1 (in), 15 A2 (in), 16 CHSL (in), 17 INTR2 (out), 18 ~{CS} (in), 19 ~{MF2} (out), 20 ~{WR} (in), 21 MR (in), 22 GND (power), 23 ~{RTS2} (out), 24 ~{RD} (in), 25 SIN2 (in), 26 SOUT2 (out), 27 ~{DTR2} (out), 28 ~{CTS2} (in), 29 ~{DSR2} (in), 30 ~{DCD2} (in), 31 ~{RI2} (in), 32 ~{TXRDY2} (out), 33 VCC (power), 34 INTR1 (out), 35 ~{MF1} (out), 36 ~{RTS1} (out), 37 ~{DTR1} (out), 38 SOUT1 (out), 39 SIN1 (in), 40 ~{CTS1} (in), 41 ~{DSR1} (in), 42 ~{DCD1} (in), 43 ~{RI1} (in), 44 VCC (power)

## NS16C2552TVAX
designator U?
Dual UART with 16-byte/64-byte FIFO's and up to 5 Mbit/s Data Rate; PartNumber: NS16C2552TVAX; Manufacturer: National Semiconductor; CompType: Interface IC; PackageTopMarking: NSUZXYYTTE#*NS16C2552TVA*BBBBB; PowerWise: N; Published: 4-Dec-2008; DatasheetVersion: Dec-2006; PackageVersion: revK, Dec-1993; PackageReference: V44A; Publisher: Altium Limited; PackageDescription: Plastic Chip Carrier, Sq., .050mil Lead Pitch, 44 Lead; RoHS: Y; PinCount: 44; Code_IPC: PLCC-44; ComponentLink1Description: NS16C2552 Datasheet; ComponentLink1URL: http://www.national.com/ds/NS/NS16C2552.pdf; ComponentLink2Description: NS16C2552 Web Page; ComponentLink2URL: http://www.national.com/pf/NS/NS16C2552.html; ComponentLink3Description: V44A Package Page; ComponentLink3URL: http://www.national.com/packaging/folders/v44a.html
footprint V44A_N (Leaded Chip Carrier, 44-Leads, Body 16.6x16.6mm, Pitch 1.27mm, IPC Medium Density)
footprint V44A_L (Leaded Chip Carrier, 44-Leads, Body 16.6x16.6mm, Pitch 1.27mm, IPC High Density)
footprint V44A_M (Leaded Chip Carrier, 44-Leads, Body 16.6x16.6mm, Pitch 1.27mm, IPC Low Density)
pins: 1 ~{TXRDY1} (out), 2 D0 (in), 3 D1 (in), 4 D2 (in), 5 D3 (in), 6 D4 (in), 7 D5 (in), 8 D6 (in), 9 D7 (in), 10 A0 (in), 11 XIN (in), 12 GND (power), 13 XOUT (out), 14 A1 (in), 15 A2 (in), 16 CHSL (in), 17 INTR2 (out), 18 ~{CS} (in), 19 ~{MF2} (out), 20 ~{WR} (in), 21 MR (in), 22 GND (power), 23 ~{RTS2} (out), 24 ~{RD} (in), 25 SIN2 (in), 26 SOUT2 (out), 27 ~{DTR2} (out), 28 ~{CTS2} (in), 29 ~{DSR2} (in), 30 ~{DCD2} (in), 31 ~{RI2} (in), 32 ~{TXRDY2} (out), 33 VCC (power), 34 INTR1 (out), 35 ~{MF1} (out), 36 ~{RTS1} (out), 37 ~{DTR1} (out), 38 SOUT1 (out), 39 SIN1 (in), 40 ~{CTS1} (in), 41 ~{DSR1} (in), 42 ~{DCD1} (in), 43 ~{RI1} (in), 44 VCC (power)

## NS16C2552TVS
designator U?
Dual UART with 16-byte/64-byte FIFO's and up to 5 Mbit/s Data Rate; PartNumber: NS16C2552TVS; Manufacturer: National Semiconductor; CompType: Interface IC; PackageTopMarking: NSUZXYTT*NS16C2*552TVS; PowerWise: N; Published: 4-Dec-2008; DatasheetVersion: Dec-2006; PackageVersion: revA, Apr-2000; PackageReference: VBC48A; Publisher: Altium Limited; PackageDescription: TQFP, Jedec Metric, 7 x 7 x 1mm, 48 Lead, 0.5mm Pitch; RoHS: O; PinCount: 48; Code_JEDEC: MS-026-ABC; ComponentLink1Description: NS16C2552 Datasheet; ComponentLink1URL: http://www.national.com/ds/NS/NS16C2552.pdf; ComponentLink2Description: NS16C2552 Web Page; ComponentLink2URL: http://www.national.com/pf/NS/NS16C2552.html; ComponentLink3Description: VBC48A Package Page; ComponentLink3URL: http://www.national.com/packaging/folders/vbc48a.html
footprint VBC48A_N (Thin QFP, 48-Leads, Body 7x7mm, Pitch 0.5mm, IPC Medium Density)
footprint VBC48A_L (Thin QFP, 48-Leads, Body 7x7mm, Pitch 0.5mm, IPC High Density)
footprint VBC48A_M (Thin QFP, 48-Leads, Body 7x7mm, Pitch 0.5mm, IPC Low Density)
pins: 1 D5 (in), 2 D6 (in), 3 D7 (in), 4 A0 (in), 5 XIN (in), 6 GND (power), 7 XOUT (out), 8 ~{RXRDY2} (out), 9 A1 (in), 10 A2 (in), 11 CHSL (in), 12 INTR2 (out), 13 ~{CS} (in), 14 ~{MF2} (out), 15 ~{WR} (in), 16 MR (in), 17 GND (power), 18 ~{RTS2} (out), 19 NC, 20 ~{RD} (in), 21 SIN2 (in), 22 SOUT2 (out), 23 ~{DTR2} (out), 24 ~{CTS2} (in), 25 ~{DSR2} (in), 26 ~{DCD2} (in), 27 ~{RI2} (in), 28 ~{TXRDY2} (out), 29 VCC (power), 30 INTR1 (out), 31 ~{RXRDY1} (out), 32 ~{MF1} (out), 33 ~{RTS1} (out), 34 ~{DTR1} (out), 35 SOUT1 (out), 36 SIN1 (in), 37 NC, 38 ~{CTS1} (in), 39 ~{DSR1} (in), 40 ~{DCD1} (in), 41 ~{RI1} (in), 42 VCC (power), 43 ~{TXRDY1} (out), 44 D0 (in), 45 D1 (in), 46 D2 (in), 47 D3 (in), 48 D4 (in)

## NS16C2752TVA
designator U?
Dual UART with 16-byte/64-byte FIFO's and up to 5 Mbit/s Data Rate; PartNumber: NS16C2752TVA; Manufacturer: National Semiconductor; CompType: Interface IC; PackageTopMarking: NSUZXYYTTE#*NS16C2752TVA*BBBBB; PowerWise: N; Published: 4-Dec-2008; DatasheetVersion: Dec-2006; PackageVersion: revK, Dec-1993; PackageReference: V44A; Publisher: Altium Limited; PackageDescription: Plastic Chip Carrier, Sq., .050mil Lead Pitch, 44 Lead; RoHS: Y; PinCount: 44; Code_IPC: PLCC-44; ComponentLink1Description: NS16C2752 Datasheet; ComponentLink1URL: http://www.national.com/ds/NS/NS16C2552.pdf; ComponentLink2Description: NS16C2752 Web Page; ComponentLink2URL: http://www.national.com/pf/NS/NS16C2752.html; ComponentLink3Description: V44A Package Page; ComponentLink3URL: http://www.national.com/packaging/folders/v44a.html
footprint V44A_N (Leaded Chip Carrier, 44-Leads, Body 16.6x16.6mm, Pitch 1.27mm, IPC Medium Density)
footprint V44A_L (Leaded Chip Carrier, 44-Leads, Body 16.6x16.6mm, Pitch 1.27mm, IPC High Density)
footprint V44A_M (Leaded Chip Carrier, 44-Leads, Body 16.6x16.6mm, Pitch 1.27mm, IPC Low Density)
pins: 1 ~{TXRDY1} (out), 2 D0 (in), 3 D1 (in), 4 D2 (in), 5 D3 (in), 6 D4 (in), 7 D5 (in), 8 D6 (in), 9 D7 (in), 10 A0 (in), 11 XIN (in), 12 GND (power), 13 XOUT (out), 14 A1 (in), 15 A2 (in), 16 CHSL (in), 17 INTR2 (out), 18 ~{CS} (in), 19 ~{MF2} (out), 20 ~{WR} (in), 21 MR (in), 22 GND (power), 23 ~{RTS2} (out), 24 ~{RD} (in), 25 SIN2 (in), 26 SOUT2 (out), 27 ~{DTR2} (out), 28 ~{CTS2} (in), 29 ~{DSR2} (in), 30 ~{DCD2} (in), 31 ~{RI2} (in), 32 ~{TXRDY2} (out), 33 VCC (power), 34 INTR1 (out), 35 ~{MF1} (out), 36 ~{RTS1} (out), 37 ~{DTR1} (out), 38 SOUT1 (out), 39 SIN1 (in), 40 ~{CTS1} (in), 41 ~{DSR1} (in), 42 ~{DCD1} (in), 43 ~{RI1} (in), 44 VCC (power)

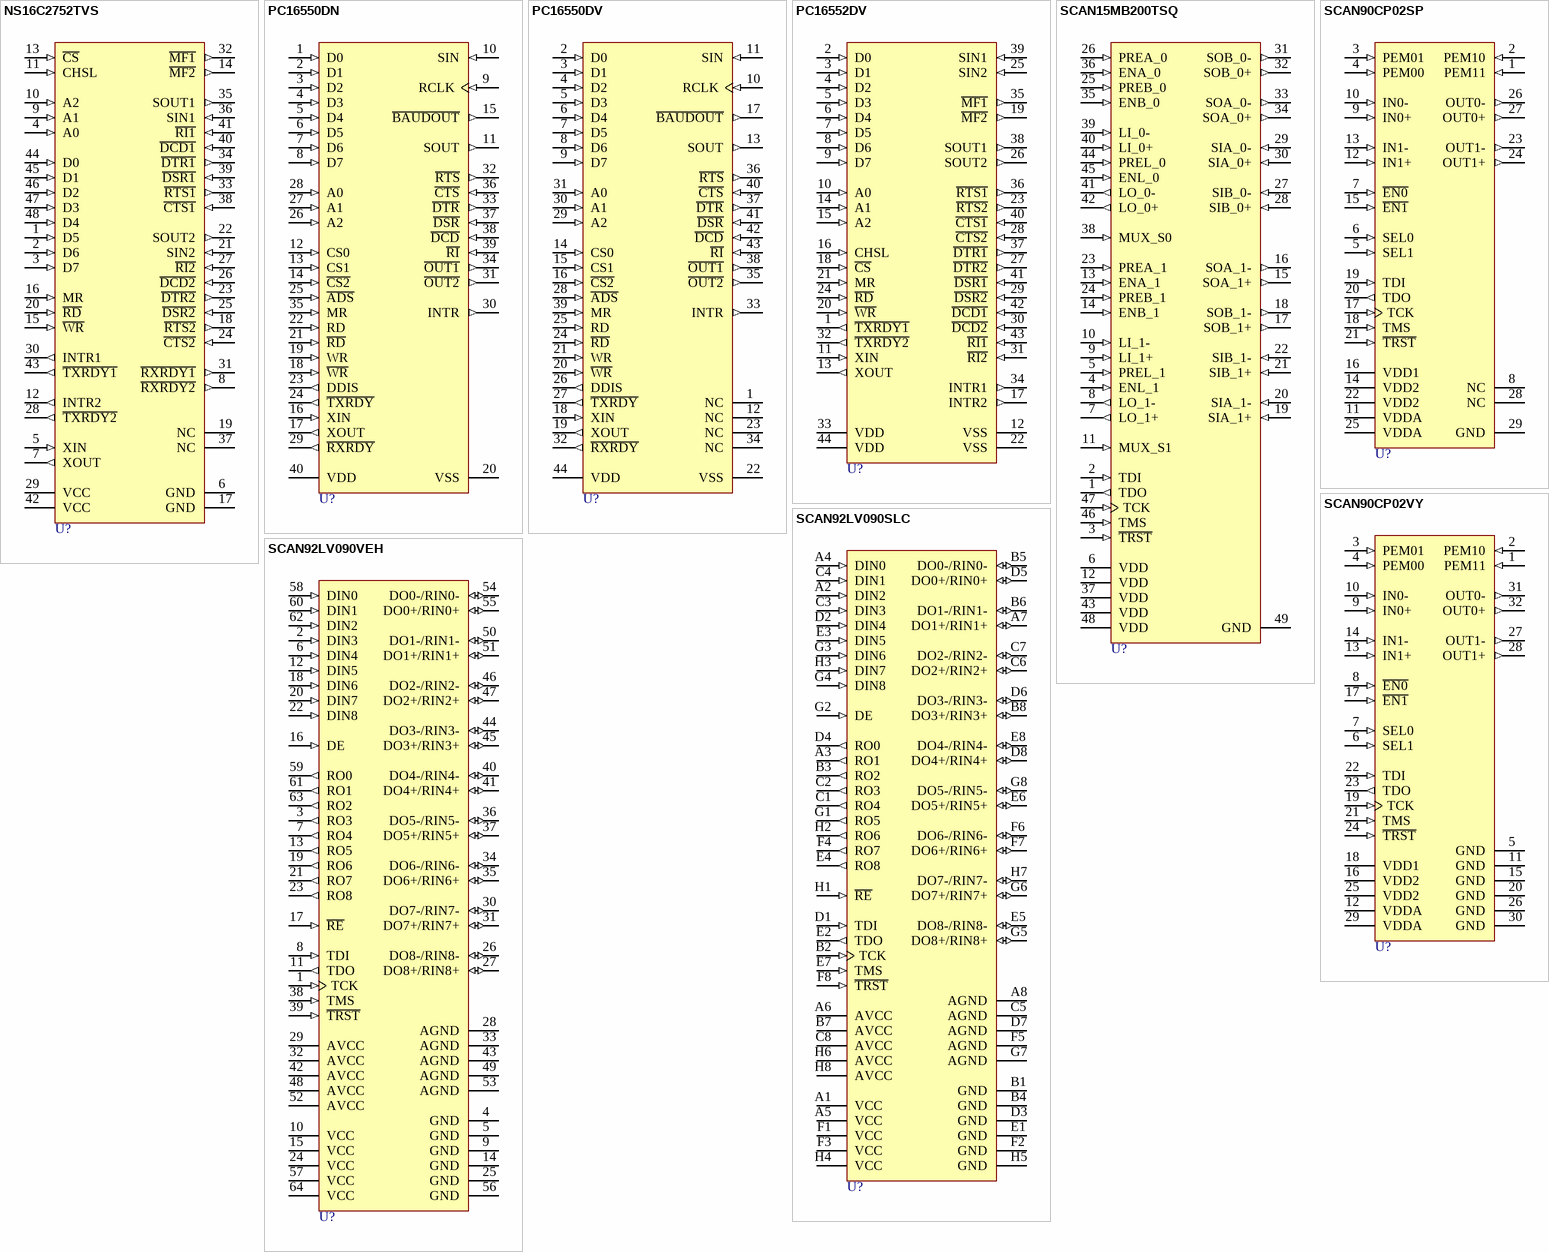
[diagram p37: symbols NS16C2752TVS to SCAN92LV090VEH]

## NS16C2752TVS
designator U?
Dual UART with 16-byte/64-byte FIFO's and up to 5 Mbit/s Data Rate; PartNumber: NS16C2752TVS; Manufacturer: National Semiconductor; CompType: Interface IC; PackageTopMarking: NSUZXYTT*NS16C2*752TVS; PowerWise: N; Published: 4-Dec-2008; DatasheetVersion: Dec-2006; PackageVersion: revA, Apr-2000; PackageReference: VBC48A; Publisher: Altium Limited; PackageDescription: TQFP, Jedec Metric, 7 x 7 x 1mm, 48 Lead, 0.5mm Pitch; RoHS: O; PinCount: 48; Code_JEDEC: MS-026-ABC; ComponentLink1Description: NS16C2752 Datasheet; ComponentLink1URL: http://www.national.com/ds/NS/NS16C2752.pdf; ComponentLink2Description: NS16C2752 Web Page; ComponentLink2URL: http://www.national.com/pf/NS/NS16C2752.html; ComponentLink3Description: VBC48A Package Page; ComponentLink3URL: http://www.national.com/packaging/folders/vbc48a.html
footprint VBC48A_N (Thin QFP, 48-Leads, Body 7x7mm, Pitch 0.5mm, IPC Medium Density)
footprint VBC48A_L (Thin QFP, 48-Leads, Body 7x7mm, Pitch 0.5mm, IPC High Density)
footprint VBC48A_M (Thin QFP, 48-Leads, Body 7x7mm, Pitch 0.5mm, IPC Low Density)
pins: 1 D5 (in), 2 D6 (in), 3 D7 (in), 4 A0 (in), 5 XIN (in), 6 GND (power), 7 XOUT (out), 8 ~{RXRDY2} (out), 9 A1 (in), 10 A2 (in), 11 CHSL (in), 12 INTR2 (out), 13 ~{CS} (in), 14 ~{MF2} (out), 15 ~{WR} (in), 16 MR (in), 17 GND (power), 18 ~{RTS2} (out), 19 NC, 20 ~{RD} (in), 21 SIN2 (in), 22 SOUT2 (out), 23 ~{DTR2} (out), 24 ~{CTS2} (in), 25 ~{DSR2} (in), 26 ~{DCD2} (in), 27 ~{RI2} (in), 28 ~{TXRDY2} (out), 29 VCC (power), 30 INTR1 (out), 31 ~{RXRDY1} (out), 32 ~{MF1} (out), 33 ~{RTS1} (out), 34 ~{DTR1} (out), 35 SOUT1 (out), 36 SIN1 (in), 37 NC, 38 ~{CTS1} (in), 39 ~{DSR1} (in), 40 ~{DCD1} (in), 41 ~{RI1} (in), 42 VCC (power), 43 ~{TXRDY1} (out), 44 D0 (in), 45 D1 (in), 46 D2 (in), 47 D3 (in), 48 D4 (in)

## PC16550DN
designator U?
Universal Asynchronous Receiver/Transmitter with FIFO's; PartNumber: PC16550DN; Manufacturer: National Semiconductor; CompType: Interface IC; PackageTopMarking: NSUZXYYTTE#*PC16550DN*PATENTED; PowerWise: N; Published: 4-Dec-2008; DatasheetVersion: Jun-1995; PackageVersion: revE, Nov-1983; PackageReference: N40A; Publisher: Altium Limited; PackageDescription: 40 Lead Molded Dip (N); RoHS: Y; PinCount: 40; DigiKeyPartNumber: PC16550DN-ND; ComponentLink1Description: PC16550D Datasheet; ComponentLink1URL: http://www.national.com/ds/PC/PC16550D.pdf; ComponentLink2Description: PC16550D Web Page; ComponentLink2URL: http://www.national.com/pf/PC/PC16550D.html; ComponentLink3Description: N40A Package Page; ComponentLink3URL: http://www.national.com/packaging/folders/n40a.html
footprint N40A (DIP, 40-Leads, Row Spacing 15.24mm, Pitch 2.54mm, Body 52.24x13.97mm)
pins: 1 D0 (in), 2 D1 (in), 3 D2 (in), 4 D3 (in), 5 D4 (in), 6 D5 (in), 7 D6 (in), 8 D7 (in), 9 RCLK (in), 10 SIN (in), 11 SOUT (out), 12 CS0 (in), 13 CS1 (in), 14 ~{CS2} (in), 15 ~{BAUDOUT} (out), 16 XIN (in), 17 XOUT (out), 18 ~{WR} (in), 19 WR (in), 20 VSS (power), 21 ~{RD} (in), 22 RD (in), 23 DDIS (out), 24 ~{TXRDY} (out), 25 ~{ADS} (in), 26 A2 (in), 27 A1 (in), 28 A0 (in), 29 ~{RXRDY} (out), 30 INTR (out), 31 ~{OUT2} (out), 32 ~{RTS} (out), 33 ~{DTR} (out), 34 ~{OUT1} (out), 35 MR (in), 36 ~{CTS} (in), 37 ~{DSR} (in), 38 ~{DCD} (in), 39 ~{RI} (in), 40 VDD (power)

## PC16550DV
designator U?
Universal Asynchronous Receiver/Transmitter with FIFO's; PartNumber: PC16550DV; Manufacturer: National Semiconductor; CompType: Interface IC; PackageTopMarking: NSUZXYYTTE#*PC16550DV*PATENTED; PowerWise: N; Published: 4-Dec-2008; DatasheetVersion: Jun-1995; PackageVersion: revK, Dec-1993; PackageReference: V44A; Publisher: Altium Limited; PackageDescription: Plastic Chip Carrier, Sq., .050mil Lead Pitch, 44 Lead; RoHS: O; PinCount: 44; DigiKeyPartNumber: PC16550DV-ND; Code_IPC: PLCC-44; ComponentLink1Description: PC16550D Datasheet; ComponentLink1URL: http://www.national.com/ds/PC/PC16550D.pdf; ComponentLink2Description: PC16550D Web Page; ComponentLink2URL: http://www.national.com/pf/PC/PC16550D.html; ComponentLink3Description: V44A Package Page; ComponentLink3URL: http://www.national.com/packaging/folders/v44a.html
footprint V44A_N (Leaded Chip Carrier, 44-Leads, Body 16.6x16.6mm, Pitch 1.27mm, IPC Medium Density)
footprint V44A_L (Leaded Chip Carrier, 44-Leads, Body 16.6x16.6mm, Pitch 1.27mm, IPC High Density)
footprint V44A_M (Leaded Chip Carrier, 44-Leads, Body 16.6x16.6mm, Pitch 1.27mm, IPC Low Density)
pins: 1 NC, 2 D0 (in), 3 D1 (in), 4 D2 (in), 5 D3 (in), 6 D4 (in), 7 D5 (in), 8 D6 (in), 9 D7 (in), 10 RCLK (in), 11 SIN (in), 12 NC, 13 SOUT (out), 14 CS0 (in), 15 CS1 (in), 16 ~{CS2} (in), 17 ~{BAUDOUT} (out), 18 XIN (in), 19 XOUT (out), 20 ~{WR} (in), 21 WR (in), 22 VSS (power), 23 NC, 24 ~{RD} (in), 25 RD (in), 26 DDIS (out), 27 ~{TXRDY} (out), 28 ~{ADS} (in), 29 A2 (in), 30 A1 (in), 31 A0 (in), 32 ~{RXRDY} (out), 33 INTR (out), 34 NC, 35 ~{OUT2} (out), 36 ~{RTS} (out), 37 ~{DTR} (out), 38 ~{OUT1} (out), 39 MR (in), 40 ~{CTS} (in), 41 ~{DSR} (in), 42 ~{DCD} (in), 43 ~{RI} (in), 44 VDD (power)

## PC16552DV
designator U?
Dual Universal Asynchronous Receiver/Transmitter with FIFO's; PartNumber: PC16552DV; Manufacturer: National Semiconductor; CompType: Interface IC; PackageTopMarking: NSUZXYYTTE#*PC16552DV; PowerWise: N; Published: 4-Dec-2008; DatasheetVersion: Jun-1995; PackageVersion: revK, Dec-1993; PackageReference: V44A; Publisher: Altium Limited; PackageDescription: Plastic Chip Carrier, Sq., .050mil Lead Pitch, 44 Lead; RoHS: O; PinCount: 44; DigiKeyPartNumber: PC16552DV-ND; Code_IPC: PLCC-44; ComponentLink1Description: PC16552D Datasheet; ComponentLink1URL: http://www.national.com/ds/PC/PC16552D.pdf; ComponentLink2Description: PC16552D Web Page; ComponentLink2URL: http://www.national.com/pf/PC/PC16552D.html; ComponentLink3Description: V44A Package Page; ComponentLink3URL: http://www.national.com/packaging/folders/v44a.html
footprint V44A_N (Leaded Chip Carrier, 44-Leads, Body 16.6x16.6mm, Pitch 1.27mm, IPC Medium Density)
footprint V44A_L (Leaded Chip Carrier, 44-Leads, Body 16.6x16.6mm, Pitch 1.27mm, IPC High Density)
footprint V44A_M (Leaded Chip Carrier, 44-Leads, Body 16.6x16.6mm, Pitch 1.27mm, IPC Low Density)
pins: 1 ~{TXRDY1} (out), 2 D0 (in), 3 D1 (in), 4 D2 (in), 5 D3 (in), 6 D4 (in), 7 D5 (in), 8 D6 (in), 9 D7 (in), 10 A0 (in), 11 XIN (in), 12 VSS (power), 13 XOUT (out), 14 A1 (in), 15 A2 (in), 16 CHSL (in), 17 INTR2 (out), 18 ~{CS} (in), 19 ~{MF2} (out), 20 ~{WR} (in), 21 MR (in), 22 VSS (power), 23 ~{RTS2} (out), 24 ~{RD} (in), 25 SIN2 (in), 26 SOUT2 (out), 27 ~{DTR2} (out), 28 ~{CTS2} (in), 29 ~{DSR2} (in), 30 ~{DCD2} (in), 31 ~{RI2} (in), 32 ~{TXRDY2} (out), 33 VDD (power), 34 INTR1 (out), 35 ~{MF1} (out), 36 ~{RTS1} (out), 37 ~{DTR1} (out), 38 SOUT1 (out), 39 SIN1 (in), 40 ~{CTS1} (in), 41 ~{DSR1} (in), 42 ~{DCD1} (in), 43 ~{RI1} (in), 44 VDD (power)

## SCAN15MB200TSQ
designator U?
Dual 1.5 Gbps 2:1/1:2 LVDS Mux/Buffer with Pre-Emphasis and IEEE 1149.6; PartNumber: SCAN15MB200TSQ; Manufacturer: National Semiconductor; CompType: Interface IC; PackageTopMarking: NS*UZXYTT*15MB200; PowerWise: N; Published: 4-Dec-2008; DatasheetVersion: May-2006; PackageVersion: revA, May-2003; PackageReference: SQA48A; Publisher: Altium Limited; PackageDescription: LLP, Plastic, Quad, 7 x 7 x 0.8mm Body, 48 Lead, 0.5mm Pitch, No Pullback; RoHS: Y; PinCount: 48; DigiKeyPartNumber: SCAN15MB200TSQTR-ND; Code_JEDEC: MO-220-WKKD-2; ComponentLink1Description: SCAN15MB200 Datasheet; ComponentLink1URL: http://www.national.com/ds/SC/SCAN15MB200.pdf; ComponentLink2Description: SCAN15MB200 Web Page; ComponentLink2URL: http://www.national.com/pf/SC/SCAN15MB200.html; ComponentLink3Description: SQA48A Package Page; ComponentLink3URL: http://www.national.com/packaging/folders/sqa48a.html
footprint SQA48A (QFN, 48-Leads, Body 7x7mm, Pitch 0.5mm, NSC Recommended)
pins: 1 TDO (out), 2 TDI (in), 3 ~{TRST} (in), 4 ENL_1 (in), 5 PREL_1 (in), 6 VDD (power), 7 LO_1+ (out), 8 LO_1- (out), 9 LI_1+ (in), 10 LI_1- (in), 11 MUX_S1 (in), 12 VDD (power), 13 ENA_1 (in), 14 ENB_1 (in), 15 SOA_1+ (out), 16 SOA_1- (out), 17 SOB_1+ (out), 18 SOB_1- (out), 19 SIA_1+ (in), 20 SIA_1- (in), 21 SIB_1+ (in), 22 SIB_1- (in), 23 PREA_1 (in), 24 PREB_1 (in), 25 PREB_0 (in), 26 PREA_0 (in), 27 SIB_0- (in), 28 SIB_0+ (in), 29 SIA_0- (in), 30 SIA_0+ (in), 31 SOB_0- (out), 32 SOB_0+ (out), 33 SOA_0- (out), 34 SOA_0+ (out), 35 ENB_0 (in), 36 ENA_0 (in), 37 VDD (power), 38 MUX_S0 (in), 39 LI_0- (in), 40 LI_0+ (in), 41 LO_0- (out), 42 LO_0+ (out), 43 VDD (power), 44 PREL_0 (in), 45 ENL_0 (in), 46 TMS (in), 47 TCK (in), 48 VDD (power), 49 GND (power)

## SCAN90CP02SP
designator U?
1.5 Gbps 2x2 LVDS Crosspoint Switch with Pre-Emphasis and IEEE 1149.6; PartNumber: SCAN90CP02SP; Manufacturer: National Semiconductor; CompType: Interface IC; PackageTopMarking: NS*UZXYTT*SCP02SP; PowerWise: N; Published: 4-Dec-2008; DatasheetVersion: May-2007; PackageVersion: revA, Aug-2003; PackageReference: SPA28A; Publisher: Altium Limited; PackageDescription: LLP, Plastic, Quad, 5 x 5 x 0.6mm Body, 28 Lead, 0.5mm Pitch, No Pullback; RoHS: Y; PinCount: 28; DigiKeyPartNumber: SCAN90CP02SPTR-ND; Code_JEDEC: MO-220-WHHD-3; ComponentLink1Description: SCAN90CP02 Datasheet; ComponentLink1URL: http://www.national.com/ds/SC/SCAN90CP02.pdf; ComponentLink2Description: SCAN90CP02 Web Page; ComponentLink2URL: http://www.national.com/pf/SC/SCAN90CP02.html; ComponentLink3Description: SPA28A Package Page; ComponentLink3URL: http://www.national.com/packaging/folders/spa28a.html
footprint SPA28A (QFN, 28-Leads, Body 5x5mm, Pitch 0.5mm, NSC Recommended)
pins: 1 PEM11 (in), 2 PEM10 (in), 3 PEM01 (in), 4 PEM00 (in), 5 SEL1 (in), 6 SEL0 (in), 7 ~{EN0} (in), 8 NC, 9 IN0+ (in), 10 IN0- (in), 11 VDDA (power), 12 IN1+ (in), 13 IN1- (in), 14 VDD2 (power), 15 ~{EN1} (in), 16 VDD1 (power), 17 TCK (in), 18 TMS (in), 19 TDI (in), 20 TDO (out), 21 ~{TRST} (in), 22 VDD2 (power), 23 OUT1- (out), 24 OUT1+ (out), 25 VDDA (power), 26 OUT0- (out), 27 OUT0+ (out), 28 NC, 29 GND (power)

## SCAN90CP02VY
designator U?
1.5 Gbps 2x2 LVDS Crosspoint Switch with Pre-Emphasis and IEEE 1149.6; PartNumber: SCAN90CP02VY; Manufacturer: National Semiconductor; CompType: Interface IC; PackageTopMarking: NSUZXYTT*SCAN90*CP02VY; PowerWise: N; Published: 4-Dec-2008; DatasheetVersion: May-2007; PackageVersion: revE, Dec-1999; PackageReference: VBE32A; Publisher: Altium Limited; PackageDescription: LQFP, Jedec, Metric, 7 x 7 x 1.4mm, 32 Lead; RoHS: Y; PinCount: 32; DigiKeyPartNumber: SCAN90CP02VY-ND; ComponentLink1Description: SCAN90CP02 Datasheet; ComponentLink1URL: http://www.national.com/ds/SC/SCAN90CP02.pdf; ComponentLink2Description: SCAN90CP02 Web Page; ComponentLink2URL: http://www.national.com/pf/SC/SCAN90CP02.html; ComponentLink3Description: VBE32A Package Page; ComponentLink3URL: http://www.national.com/packaging/folders/vbe32a.html
footprint VBE32A_N (Thin QFP, 32-Leads, Body 7x7mm, Pitch 0.8mm, IPC Medium Density)
footprint VBE32A_L (Thin QFP, 32-Leads, Body 7x7mm, Pitch 0.8mm, IPC High Density)
footprint VBE32A_M (Thin QFP, 32-Leads, Body 7x7mm, Pitch 0.8mm, IPC Low Density)
pins: 1 PEM11 (in), 2 PEM10 (in), 3 PEM01 (in), 4 PEM00 (in), 5 GND (power), 6 SEL1 (in), 7 SEL0 (in), 8 ~{EN0} (in), 9 IN0+ (in), 10 IN0- (in), 11 GND (power), 12 VDDA (power), 13 IN1+ (in), 14 IN1- (in), 15 GND (power), 16 VDD2 (power), 17 ~{EN1} (in), 18 VDD1 (power), 19 TCK (in), 20 GND (power), 21 TMS (in), 22 TDI (in), 23 TDO (out), 24 ~{TRST} (in), 25 VDD2 (power), 26 GND (power), 27 OUT1- (out), 28 OUT1+ (out), 29 VDDA (power), 30 GND (power), 31 OUT0- (out), 32 OUT0+ (out)

## SCAN92LV090SLC
designator U?
9 Channel Bus LVDS Transceiver w/ Boundary SCAN; PartNumber: SCAN92LV090SLC; Manufacturer: National Semiconductor; CompType: Interface IC; PackageTopMarking: NSUZXYTT*SCAN92LV090*SLC; PowerWise: N; Published: 4-Dec-2008; DatasheetVersion: Dec-2006; PackageVersion: revC, Jan, 2003; PackageReference: SLC64A; Publisher: Altium Limited; PackageDescription: FBGA, Plastic, Laminated, 8 x 8 x 1.4mm, 64 Ball, 0.8mm Pitch; RoHS: O; PinCount: 64; DigiKeyPartNumber: SCAN92LV090SLC-ND; ComponentLink1Description: SCAN92LV090 Datasheet; ComponentLink1URL: http://www.national.com/ds/SC/SCAN92LV090.pdf; ComponentLink2Description: SCAN92LV090 Web Page; ComponentLink2URL: http://www.national.com/pf/SC/SCAN92LV090.html; ComponentLink3Description: SLC64A Package Page; ComponentLink3URL: http://www.national.com/packaging/folders/slc64a.html
footprint SLC64A (BGA, 64-Leads, Body 8x8mm, Pitch 0.8mm)
pins: A1 VCC (power), A2 DIN2 (in), A3 RO1 (out), A4 DIN0 (in), A5 VCC (power), A6 AVCC (power), A7 DO1+/RIN1+ (io), A8 AGND (power), B1 GND (power), B2 TCK (in), B3 RO2 (out), B4 GND (power), B5 DO0-/RIN0- (io), B6 DO1-/RIN1- (io), B7 AVCC (power), B8 DO3+/RIN3+ (io), C1 RO4 (out), C2 RO3 (out), C3 DIN3 (in), C4 DIN1 (in), C5 AGND (power), C6 DO2+/RIN2+ (io), C7 DO2-/RIN2- (io), C8 AVCC (power), D1 TDI (in), D2 DIN4 (in), D3 GND (power), D4 RO0 (out), D5 DO0+/RIN0+ (io), D6 DO3-/RIN3- (io), D7 AGND (power), D8 DO4+/RIN4+ (io), E1 GND (power), E2 TDO (out), E3 DIN5 (in), E4 RO8 (out), E5 DO8-/RIN8- (io), E6 DO5+/RIN5+ (io), E7 TMS (in), E8 DO4-/RIN4- (io), F1 VCC (power), F2 GND (power), F3 VCC (power), F4 RO7 (out), F5 AGND (power), F6 DO6-/RIN6- (io), F7 DO6+/RIN6+ (io), F8 ~{TRST} (in), G1 RO5 (out), G2 DE (in), G3 DIN6 (in), G4 DIN8 (in), G5 DO8+/RIN8+ (io), G6 DO7+/RIN7+ (io), G7 AGND (power), G8 DO5-/RIN5- (io), H1 ~{RE} (in), H2 RO6 (out), H3 DIN7 (in), H4 VCC (power), H5 GND (power), H6 AVCC (power), H7 DO7-/RIN7- (io), H8 AVCC (power)